# EAGLE library part S2_MINI (library lib_s77_eggbot)
Based on https://www.wemos.cc/en/latest/_static/files/sch_s2_mini_v1.0.0.pdf and https://www.wemos.cc/en/latest/_static/boards/s2_mini_v1.0.0_2_16x16.jpg IO0 -> SW2 IO15 -> LED IO18->10k PullUp 3V3
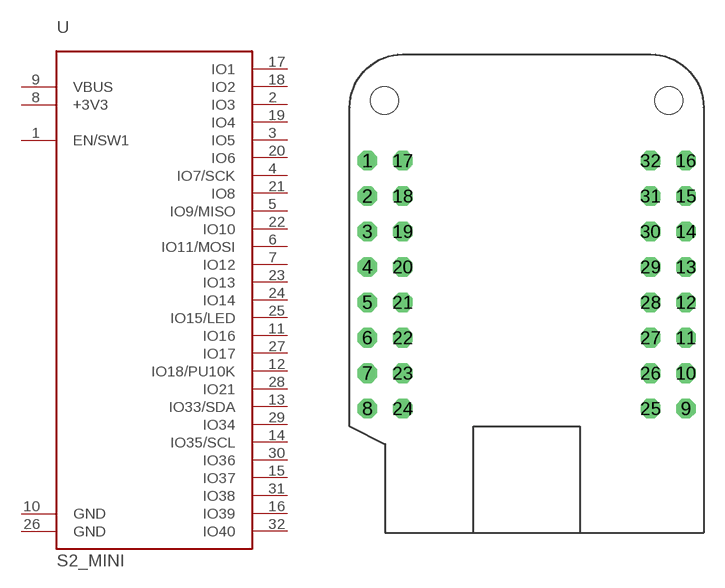
[diagram p1: symbol with the pads of S2_MINI; footprint S2_MINI]

Designator prefix U

## S2_MINI  [S2_MINI]
1  EN/SW1
2  IO3
3  IO5
4  IO7/SCK
5  IO9/MISO
6  IO11/MOSI
7  IO12
8  +3V3  pwr
9  VBUS  pwr
10  GND  pwr
11  IO16
12  IO18/PU10K
13  IO33/SDA
14  IO35/SCL
15  IO37
16  IO39
17  IO1
18  IO2
19  IO4
20  IO6
21  IO8
22  IO10
23  IO13
24  IO14
25  IO15/LED
26  GND  pwr
27  IO17
28  IO21
29  IO34
30  IO36
31  IO38
32  IO40

## Footprint S2_MINI (pad centres in mm)
drill 0.9 octagon: 1 1.27,26.67; 2 1.27,24.13; 3 1.27,21.59; 4 1.27,19.05; 5 1.27,16.51; 6 1.27,13.97; 7 1.27,11.43; 8 1.27,8.89; 9 24.13,8.89; 10 24.13,11.43; 11 24.13,13.97; 12 24.13,16.51; 13 24.13,19.05; 14 24.13,21.59; 15 24.13,24.13; 16 24.13,26.67; 17 3.81,26.67; 18 3.81,24.13; 19 3.81,21.59; 20 3.81,19.05; 21 3.81,16.51; 22 3.81,13.97; 23 3.81,11.43; 24 3.81,8.89; 25 21.59,8.89; 26 21.59,11.43; 27 21.59,13.97; 28 21.59,16.51; 29 21.59,19.05; 30 21.59,21.59; 31 21.59,24.13; 32 21.59,26.67
hole 2 at 2.5,30.988
hole 2 at 22.9,30.988